# EAGLE library part DF40C-90DP (library con-Hirose)
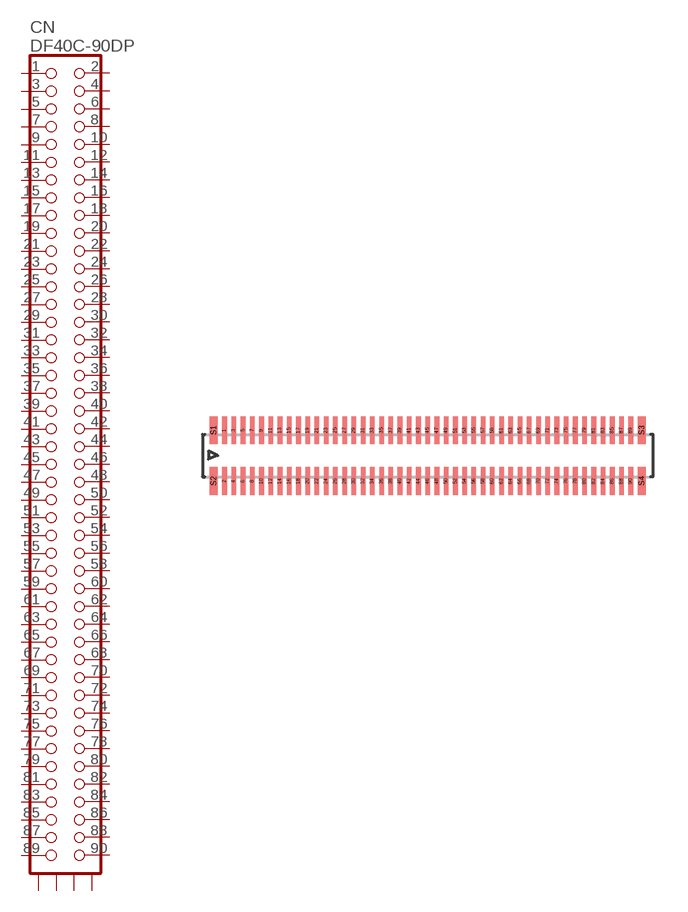
[diagram p18: symbol with the pads of DF40C-90DP; footprint DF40C-90DP]

Designator prefix CN

## DF40C-90DP  [DF40C-90DP]
1  1  pas
2  2  pas
3  3  pas
4  4  pas
5  5  pas
6  6  pas
7  7  pas
8  8  pas
9  9  pas
10  10  pas
11  11  pas
12  12  pas
13  13  pas
14  14  pas
15  15  pas
16  16  pas
17  17  pas
18  18  pas
19  19  pas
20  20  pas
21  21  pas
22  22  pas
23  23  pas
24  24  pas
25  25  pas
26  26  pas
27  27  pas
28  28  pas
29  29  pas
30  30  pas
31  31  pas
32  32  pas
33  33  pas
34  34  pas
35  35  pas
36  36  pas
37  37  pas
38  38  pas
39  39  pas
40  40  pas
41  41  pas
42  42  pas
43  43  pas
44  44  pas
45  45  pas
46  46  pas
47  47  pas
48  48  pas
49  49  pas
50  50  pas
51  51  pas
52  52  pas
53  53  pas
54  54  pas
55  55  pas
56  56  pas
57  57  pas
58  58  pas
59  59  pas
60  60  pas
61  61  pas
62  62  pas
63  63  pas
64  64  pas
65  65  pas
66  66  pas
67  67  pas
68  68  pas
69  69  pas
70  70  pas
71  71  pas
72  72  pas
73  73  pas
74  74  pas
75  75  pas
76  76  pas
77  77  pas
78  78  pas
79  79  pas
80  80  pas
81  81  pas
82  82  pas
83  83  pas
84  84  pas
85  85  pas
86  86  pas
87  87  pas
88  88  pas
89  89  pas
90  90  pas
S1  S1  pas
S2  S2  pas
S3  S3  pas
S4  S4  pas

## Footprint DF40C-90DP (pad centres in mm)
smd 0.2 x 1.2: 1 -8.8,1.1; 2 -8.8,-1.1; 3 -8.4,1.1; 4 -8.4,-1.1; 5 -8,1.1; 6 -8,-1.1; 7 -7.6,1.1; 8 -7.6,-1.1; 9 -7.2,1.1; 10 -7.2,-1.1; 11 -6.8,1.1; 12 -6.8,-1.1; 13 -6.4,1.1; 14 -6.4,-1.1; 15 -6,1.1; 16 -6,-1.1; 17 -5.6,1.1; 18 -5.6,-1.1; 19 -5.2,1.1; 20 -5.2,-1.1; 21 -4.8,1.1; 22 -4.8,-1.1; 23 -4.4,1.1; 24 -4.4,-1.1; 25 -4,1.1; 26 -4,-1.1; 27 -3.6,1.1; 28 -3.6,-1.1; 29 -3.2,1.1; 30 -3.2,-1.1; 31 -2.8,1.1; 32 -2.8,-1.1; 33 -2.4,1.1; 34 -2.4,-1.1; 35 -2,1.1; 36 -2,-1.1; 37 -1.6,1.1; 38 -1.6,-1.1; 39 -1.2,1.1; 40 -1.2,-1.1; 41 -0.8,1.1; 42 -0.8,-1.1; 43 -0.4,1.1; 44 -0.4,-1.1; 45 0,1.1; 46 0,-1.1; 47 0.4,1.1; 48 0.4,-1.1; 49 0.8,1.1; 50 0.8,-1.1; 51 1.2,1.1; 52 1.2,-1.1; 53 1.6,1.1; 54 1.6,-1.1; 55 2,1.1; 56 2,-1.1; 57 2.4,1.1; 58 2.4,-1.1; 59 2.8,1.1; 60 2.8,-1.1; 61 3.2,1.1; 62 3.2,-1.1; 63 3.6,1.1; 64 3.6,-1.1; 65 4,1.1; 66 4,-1.1; 67 4.4,1.1; 68 4.4,-1.1; 69 4.8,1.1; 70 4.8,-1.1; 71 5.2,1.1; 72 5.2,-1.1; 73 5.6,1.1; 74 5.6,-1.1; 75 6,1.1; 76 6,-1.1; 77 6.4,1.1; 78 6.4,-1.1; 79 6.8,1.1; 80 6.8,-1.1; 81 7.2,1.1; 82 7.2,-1.1; 83 7.6,1.1; 84 7.6,-1.1; 85 8,1.1; 86 8,-1.1; 87 8.4,1.1; 88 8.4,-1.1; 89 8.8,1.1; 90 8.8,-1.1
smd 0.35 x 1.2: S1 -9.275,1.1; S2 -9.275,-1.1; S3 9.275,1.1; S4 9.275,-1.1